# EAGLE library part ADT7410 (library DMClock2018)
Analog Devices I2C temperature sensor
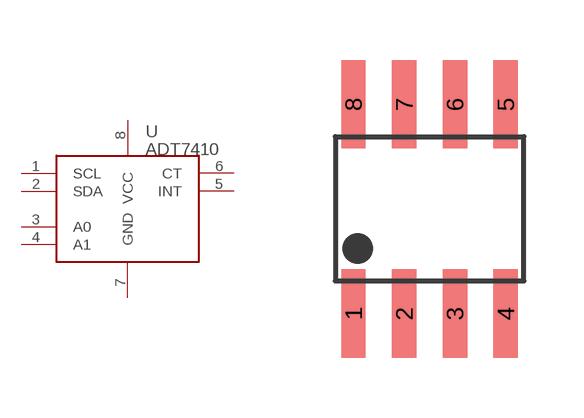
[diagram p1: symbol with the pads of SO08; footprint SO08]

Designator prefix U

## ADT7410'SO'  [SO08]
1  SCL
2  SDA
3  A0
4  A1
5  INT
6  CT
7  GND
8  VCC

## Footprint SO08 (pad centres in mm)
smd 0.61 x 2.21: 1 -1.905,-2.616; 2 -0.635,-2.616; 3 0.635,-2.616; 4 1.905,-2.616; 5 1.905,2.616; 6 0.635,2.616; 7 -0.635,2.616; 8 -1.905,2.616